# EAGLE library part AK505/6 (library con-ptr500+)
CONNECTOR
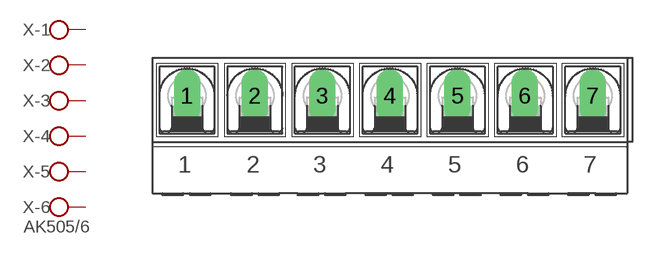
[diagram p14: symbol with the pads of AK505/7; footprint AK505/7]

Designator prefix X; gates -1=KL -2=KL -3=KL -4=KL -5=KL -6=KLV

## AK505/6  [AK505/7]
1  -1:KL  pas
2  -2:KL  pas
3  -3:KL  pas
4  -4:KL  pas
5  -5:KL  pas
6  -6:KL  pas

## Footprint AK505/7 (pad centres in mm)
CONNECTOR
drill 1.321 long: 1 -15.037,0; 2 -10.008,0; 3 -5.004,0; 4 0,0; 5 5.004,0; 6 10.008,0; 7 15.037,0